# Altium integrated library Tactile_Switch_SMD.IntLib: 1 symbol
Pins are listed as number, name and electrical type; pins without a type are passive.

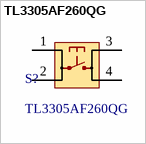
[diagram p0: symbol TL3305AF260QG]

## TL3305AF260QG
designator S?
TL3305A Series SPST 12 V 4.5 x 4.5 mm 260 gf Top Actuated SMT Tactile Switch; Manufacturer 1: E-Switch; Category 1: Tactile Switches; Supplier 1: Digi-Key; Supplier Part Number 1: EG5353CT-ND; Manufacturer Part Number 1: TL3305AF260QG; RoHS 1: No; Description 1: TL3305A Series SPST 12 V 4.5 x 4.5 mm 260 gf Top Actuated SMT Tactile Switch; Stock 1: 202641; Pricing 1: 1=0.21000, 10=0.19900, 25=0.18880, 100=0.17170, 250=0.16140, 500=0.14766, 1000=0.12362 (USD); ComponentLink1URL: http://www.farnell.com/datasheets/2554191.pdf?src-supplier=Farnell; ComponentLink1Description: http://www.farnell.com/datasheets/2554191.pdf?src-supplier=Farnell; ComponentLink2URL: http://spec_sheets.e-switch.com/specs/P010471.pdf?src-supplier=Digi-Key; ComponentLink2Description: http://spec_sheets.e-switch.com/specs/P010471.pdf?src-supplier=Digi-Key; ComponentLink3URL: http://www.farnell.com/datasheets/2554191.pdf?src-supplier=Newark; ComponentLink3Description: http://www.farnell.com/datasheets/2554191.pdf?src-supplier=Newark; ComponentLink4URL: http://spec_sheets.e-switch.com/specs/P010471.pdf?src-supplier=Mouser; ComponentLink4Description: http://spec_sheets.e-switch.com/specs/P010471.pdf?src-supplier=Mouser; ComponentLink5URL: http://www.farnell.com/datasheets/2554191.pdf?src-supplier=Element14; ComponentLink5Description: http://www.farnell.com/datasheets/2554191.pdf?src-supplier=Element14; ComponentLink6URL: http://spec_sheets.e-switch.com/specs/P010471.pdf?src-supplier=NAC+Semi; ComponentLink6Description: http://spec_sheets.e-switch.com/specs/P010471.pdf?src-supplier=NAC+Semi; Supplier 2: Digi-Key; Supplier Part Number 2: EG5353DKR-ND; Supplier 3: Digi-Key; Supplier Part Number 3: EG5353TR-ND; Supplier 4: Mouser; Supplier Part Number 4: 612-TL3305AF260QG; Supplier 5: Newark; Supplier Part Number 5: 84Y2775; Supplier 6: LCSC; Supplier Part Number 6: C2886902
footprint PCBComponent_1
pins: 1, 2, 3, 4